# Altium schematic symbol library PDBueno.SchLib: 6 symbols
Pins are listed as number, name and electrical type; pins without a type are passive.

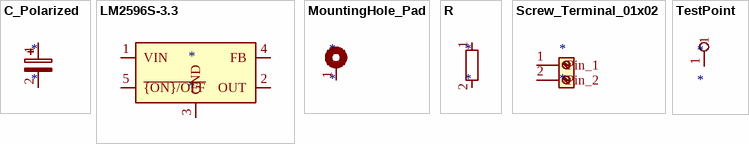
[diagram p0: symbols C_Polarized to TestPoint]

## C_Polarized
designator *
pins: 1, 2

## LM2596S-3.3
designator *
pins: 1 VIN, 2 OUT, 3 GND, 4 FB, 5 ~{{ON}/OFF}

## MountingHole_Pad
designator *
pins: 1

## R
designator *
pins: 1, 2

## Screw_Terminal_01x02
designator *
pins: 1 Pin_1, 2 Pin_2

## TestPoint
designator *
pins: 1